# Altium footprint library BMP180.PcbLib: 1 footprints
Each footprint in its own frame and in the unit in brackets; x right, y up, seen from the top. Pads: shape width x height; smd on the part's side, far side on the other; paste and mask are expansions set on the pad; w line width, h text height; cw(c..) or ccw(c..) is an arc to the next point about the centre after c.
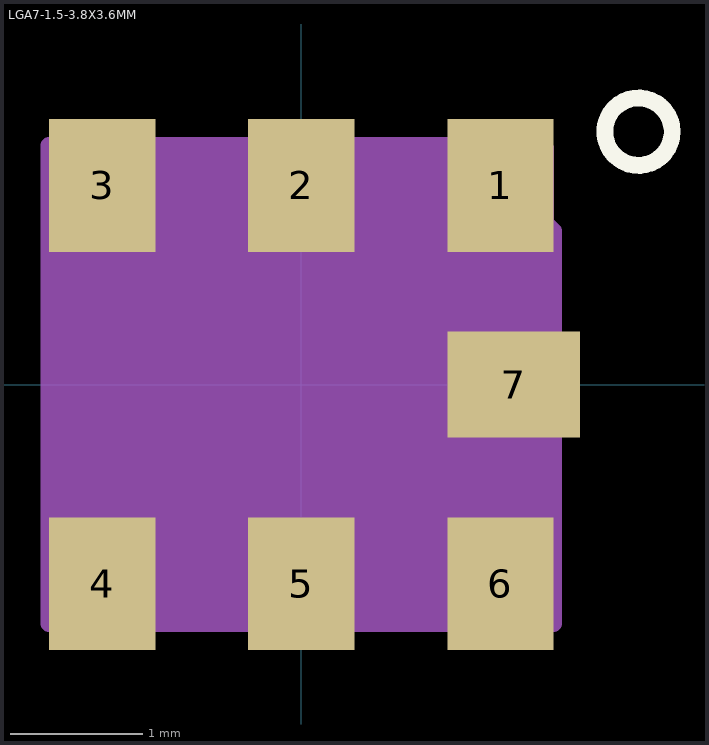
[diagram p0: the footprint, top view; thin cyan lines are the x and y axes]

## LGA7-1.5-3.8X3.6MM [mm]
pads (7):
  rect 0.8x1 smd: 1(1.5,1.5) 2(0,1.5) 3(-1.5,1.5) 4(-1.5,-1.5) 5(0,-1.5) 6(1.5,-1.5)
  rect 1x0.8 smd: 7(1.6,0)
Top Overlay:
  circle w0.127: c2.54,1.905 r0.254
Assembly Top:
  lines w0.127: -1.9,-1.8 1.9,-1.8 1.9,1.155 1.255,1.8 -1.9,1.8 -1.9,-1.8
Courtyard Top:
  region: 1.9,-1.802 -1.902,-1.802 -1.902,1.8 1.9,1.8
3D body "step_temp.STEP": height 1, standoff 0, extent -1.9,-1.8 1.9,1.8